# Altium schematic symbol library SSR.SchLib: 48 symbols
Pins are listed as number, name and electrical type; pins without a type are passive.

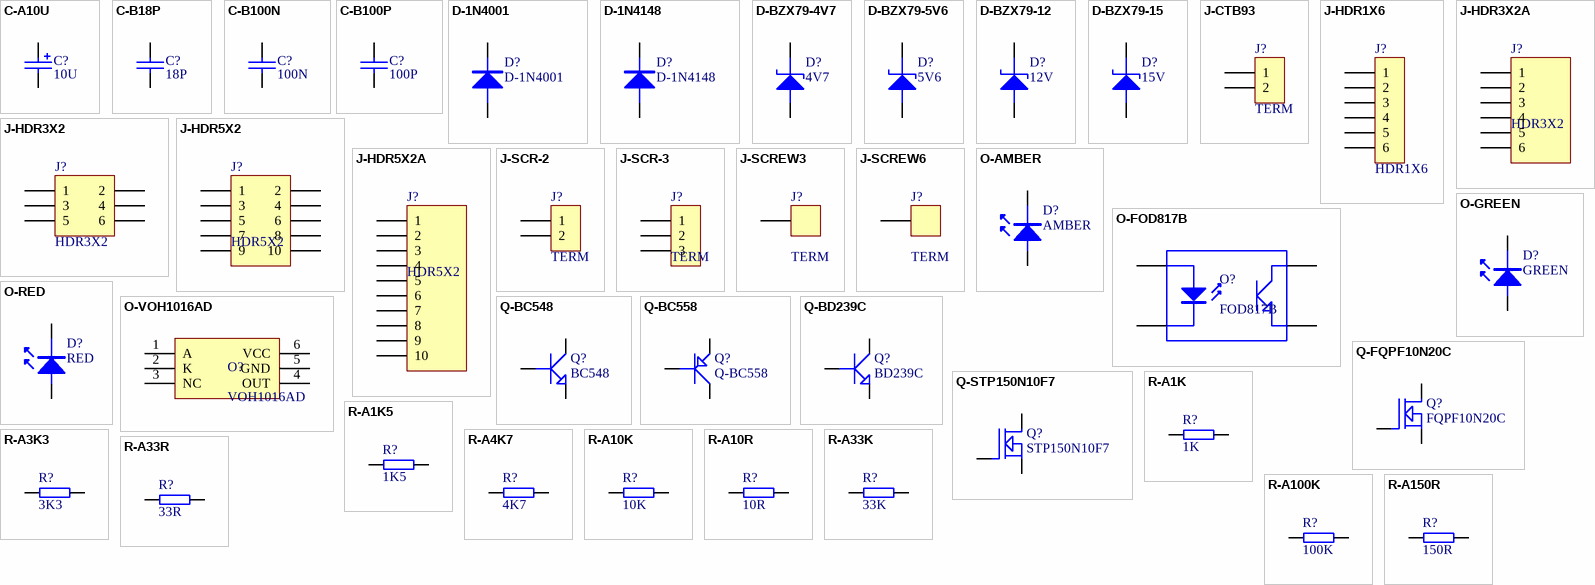
[diagram p0: symbols C-A10U to R-A150R]

## C-A10U
designator C?, comment 10U
CAP
footprint RADIAL02P
pins: 1, 2

## C-B18P
designator C?, comment 18P
CAPACITOR
footprint AXIAL02
pins: 1, 2

## C-B100N
designator C?, comment 100N
CAPACITOR
footprint AXIAL02
pins: 1, 2

## C-B100P
designator C?, comment 100P
CAPACITOR
footprint AXIAL02
pins: 1, 2

## D-1N4001
designator D?
1N4001
footprint DO35S
pins: 1 A, 2 K

## D-1N4148
designator D?
1N4148
footprint DO35S
pins: 1 A, 2 K

## D-BZX79-4V7
designator D?, comment 4V7
ZENER DIODE
footprint DO35S
pins: 1 A, 2 K

## D-BZX79-5V6
designator D?, comment 5V6
ZENER DIODE
footprint DO35S
pins: 1 A, 2 K

## D-BZX79-12
designator D?, comment 12V
ZENER DIODE
footprint DO35S
pins: 1 A, 2 K

## D-BZX79-15
designator D?, comment 15V
ZENER DIODE
footprint DO35S
pins: 1 A, 2 K

## J-CTB93
designator J?, comment TERM
CONNECTOR
footprint CTB93HE (CAMDEN SCREW TERMINAL)
pins: 1, 2

## J-HDR1X6
designator J?, comment HDR1X6
CONNECTOR; Text Field1: 6 PIN 2.54MM PITCH SINGLE
footprint HDR6X1 (Header 6 x 1)
pins: 1, 2, 3, 4, 5, 6

## J-HDR3X2
designator J?, comment HDR3X2
CONNECTOR
footprint HDR3X2 (Header 3 x 2)
pins: 1, 2, 3, 4, 5, 6

## J-HDR3X2A
designator J?, comment HDR3X2
CONNECTOR
footprint HDR3X2 (Header 3 x 2)
pins: 1, 2, 3, 4, 5, 6

## J-HDR5X2
designator J?, comment HDR5X2
CONNECTOR
footprint HDR5X2 (Header 5 x 2)
pins: 1, 2, 3, 4, 5, 6, 7, 8, 9, 10

## J-HDR5X2A
designator J?, comment HDR5X2
CONNECTOR
footprint HDR5X2 (Header 5 x 2)
pins: 1, 2, 3, 4, 5, 6, 7, 8, 9, 10

## J-SCR-2
designator J?, comment TERM
CONNECTOR
footprint MKD500S2
pins: 1, 2

## J-SCR-3
designator J?, comment TERM
CONNECTOR
footprint MKD500S3
pins: 1, 2, 3

## J-SCREW3
designator J?, comment TERM
CONNECTOR
footprint SCREW3
pins: 1

## J-SCREW6
designator J?, comment TERM
CONNECTOR
footprint SCREW6
pins: 1

## O-AMBER
designator D?, comment AMBER
LED
footprint LED5MM
pins: 1 A, 2 K

## O-FOD817B
designator O?, comment FOD817B
OPTO ISOLATOR
footprint DIP4
pins: 1 A, 2 K, 3 E, 4 C

## O-GREEN
designator D?, comment GREEN
LED
footprint LED5MM
pins: 1 A, 2 K

## O-RED
designator D?, comment RED
LED
footprint LED5MM
pins: 1 A, 2 K

## O-VOH1016AD
designator O?, comment VOH1016AD
OPTO ISOLATOR
footprint DIP6
pins: 1 A, 2 K, 3 NC, 4 OUT, 5 GND, 6 VCC

## Q-BC548
designator Q?, comment BC548
footprint TO92
pins: 1 E, 2 B, 3 C

## Q-BC558
designator Q?
BC558
footprint TO92
pins: 1 E, 2 B, 3 C

## Q-BD239C
designator Q?, comment BD239C
footprint TO220
pins: 1 E, 2 B, 3 C

## Q-FQPF10N20C
designator Q?, comment FQPF10N20C
MOSFET
footprint TO220V (TO220)
pins: 1 G, 2 D, 3 S

## Q-STP150N10F7
designator Q?, comment STP150N10F7
MOSFET
footprint TO220FS (TO220 Flat Reverse)
pins: 1 G, 2 D, 3 S

## R-A1K
designator R?, comment 1K
RESISTOR; Detail: *; Order: *; Cost: *
footprint AXIAL04
pins: 1, 2

## R-A1K5
designator R?, comment 1K5
RESISTOR; Detail: *; Order: *; Cost: *
footprint AXIAL04
pins: 1, 2

## R-A3K3
designator R?, comment 3K3
RESISTOR; Detail: *; Order: *; Cost: *
footprint AXIAL04
pins: 1, 2

## R-A4K7
designator R?, comment 4K7
RESISTOR; Detail: *; Order: *; Cost: *
footprint AXIAL04
pins: 1, 2

## R-A10K
designator R?, comment 10K
RESISTOR; Detail: *; Order: *; Cost: *
footprint AXIAL04
pins: 1, 2

## R-A10R
designator R?, comment 10R
RESISTOR; Detail: *; Order: *; Cost: *
footprint AXIAL04
pins: 1, 2

## R-A33K
designator R?, comment 33K
RESISTOR; Detail: *; Order: *; Cost: *
footprint AXIAL04
pins: 1, 2

## R-A33R
designator R?, comment 33R
RESISTOR; Detail: *; Order: *; Cost: *
footprint AXIAL04
pins: 1, 2

## R-A100K
designator R?, comment 100K
RESISTOR; Detail: *; Order: *; Cost: *
footprint AXIAL04
pins: 1, 2

## R-A150R
designator R?, comment 150R
RESISTOR; Detail: *; Order: *; Cost: *
footprint AXIAL04
pins: 1, 2

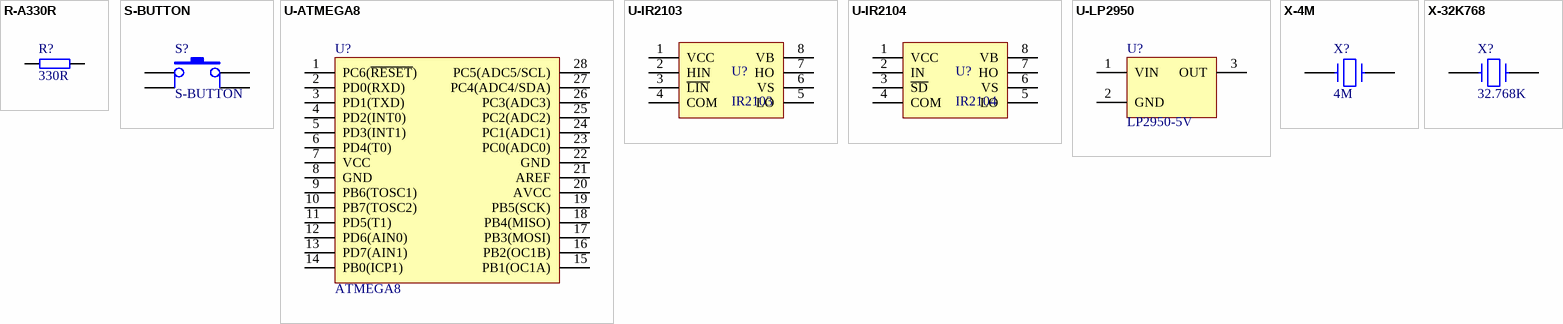
[diagram p1: symbols R-A330R to X-32K768]

## R-A330R
designator R?, comment 330R
RESISTOR; Detail: *; Order: *; Cost: *
footprint AXIAL04
pins: 1, 2

## S-BUTTON
designator S?
PUSH BUTTON SWITCH
footprint SWPB
pins: 1, 2, 3, 4

## U-ATMEGA8
designator U?, comment ATMEGA8
MICROCONTROLLER
footprint DIP28N
pins: 1 PC6(~{RESET}), 2 PD0(RXD), 3 PD1(TXD), 4 PD2(INT0), 5 PD3(INT1) (power), 6 PD4(T0) (power), 7 VCC, 8 GND, 9 PB6(TOSC1), 10 PB7(TOSC2), 11 PD5(T1), 12 PD6(AIN0), 13 PD7(AIN1), 14 PB0(ICP1), 15 PB1(OC1A), 16 PB2(OC1B), 17 PB3(MOSI), 18 PB4(MISO), 19 PB5(SCK), 20 AVCC, 21 AREF, 22 GND, 23 PC0(ADC0), 24 PC1(ADC1), 25 PC2(ADC2), 26 PC3(ADC3), 27 PC4(ADC4/SDA), 28 PC5(ADC5/SCL)

## U-IR2103
designator U?, comment IR2103
GATE DRIVER
footprint DIP8
pins: 1 VCC, 2 HIN, 3 ~{LIN}, 4 COM, 5 LO, 6 VS, 7 HO, 8 VB

## U-IR2104
designator U?, comment IR2104
GATE DRIVER
footprint DIP8
pins: 1 VCC, 2 IN, 3 ~{SD}, 4 COM, 5 LO, 6 VS, 7 HO, 8 VB

## U-LP2950
designator U?, comment LP2950-5V
LP2950
footprint TO92
pins: 1 VIN, 2 GND (power), 3 OUT

## X-4M
designator X?, comment 4M
CRYSTAL
footprint HC49
pins: 1, 2

## X-32K768
designator X?, comment 32.768K
CRYSTAL
footprint RADIAL01
pins: 1, 2